# Altium schematic symbol library Motors Brushed.SchLib: 2 symbols
Pins are listed as number, name and electrical type; pins without a type are passive.

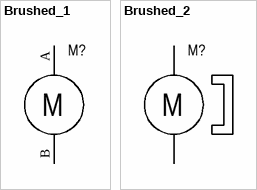
[diagram p0: symbols Brushed_1 to Brushed_2]

## Brushed_1
designator M?
Brushed motor; Component: Motor Brushed; Group: Mechanical; Power: W; Operating temperature: -°C +°C; Mounting type: Through hole; Dimension: .0mm x .0mm; Height: .0mm
pins: A, B
text: M

## Brushed_2
designator M?
Brushed motor; Component: Motor Brushed; Group: Mechanical; Power: W; Operating temperature: -°C +°C; Mounting type: Through hole; Dimension: .0mm x .0mm; Height: .0mm
pins: A, B
text: M